# Altium integrated library Integrated_Library1.IntLib: 1 symbol
Pins are listed as number, name and electrical type; pins without a type are passive.

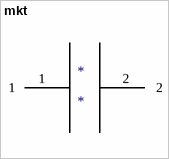
[diagram p0: symbol mkt]

## mkt
designator *
footprint mkt
pins: 1, 2  2